# EAGLE library part MAA723 (library linear)
Voltage Regulator
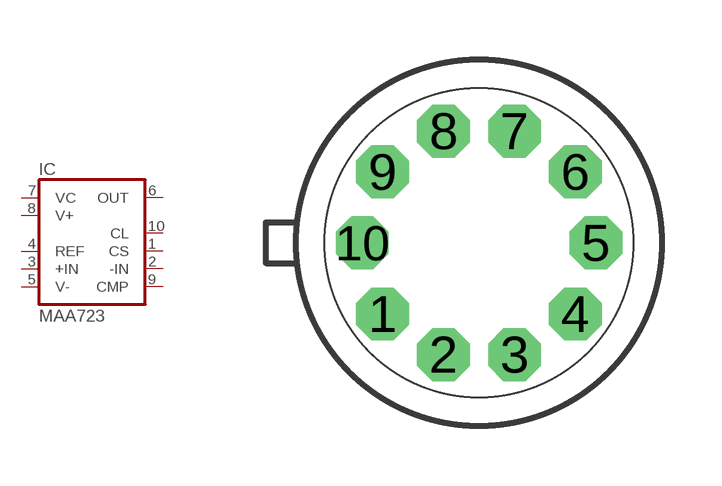
[diagram p202: symbol with the pads of TO100; footprint TO100]

Designator prefix IC

## MAA723  [TO100]
1  CS  in
2  -IN  in
3  +IN  in
4  REF  out
5  V-  in
6  OUT  out
7  VC  in
8  V+  in
9  CMP  pas
10  CL  in

## Footprint TO100 (pad centres in mm)
Metal Can Package
drill 0.813 octagon: 1 -2.413,-1.778; 2 -0.889,-2.794; 3 0.889,-2.794; 4 2.413,-1.778; 5 2.921,0; 6 2.413,1.778; 7 0.889,2.794; 8 -0.889,2.794; 9 -2.413,1.778; 10 -2.921,0